# EAGLE library part TPS2561DRCT (library Roboracing)
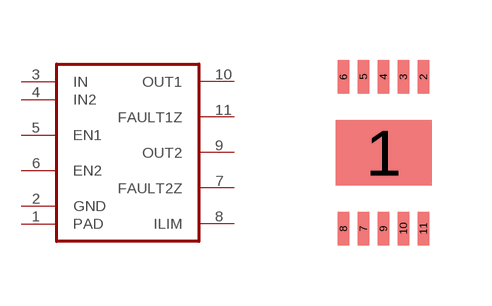
[diagram p12: symbol with the pads of 10-VSON; footprint 10-VSON]

Designator prefix -

## TPS2561DRCT  [10-VSON]
1  PAD
2  GND
3  IN
4  IN2
5  EN1
6  EN2
7  FAULT2Z
8  ILIM
9  OUT2
10  OUT1
11  FAULT1Z

## Footprint 10-VSON (pad centres in mm)
smd 2.4 x 1.65: 1 0,0
smd 0.28 x 0.85: 2 1,1.9; 3 0.5,1.9; 4 0,1.9; 5 -0.5,1.9; 6 -1,1.9; 7 -0.5,-1.9; 8 -1,-1.9; 9 0,-1.9; 10 0.5,-1.9; 11 1,-1.9